# Altium footprint library relay.PCBLIB: 291 footprints (part 3 of 19)
Each footprint in its own frame and in the unit in brackets; x right, y up, seen from the top. Pads: shape width x height; smd on the part's side, far side on the other; paste and mask are expansions set on the pad; w line width, h text height; cw(c..) or ccw(c..) is an arc to the next point about the centre after c.
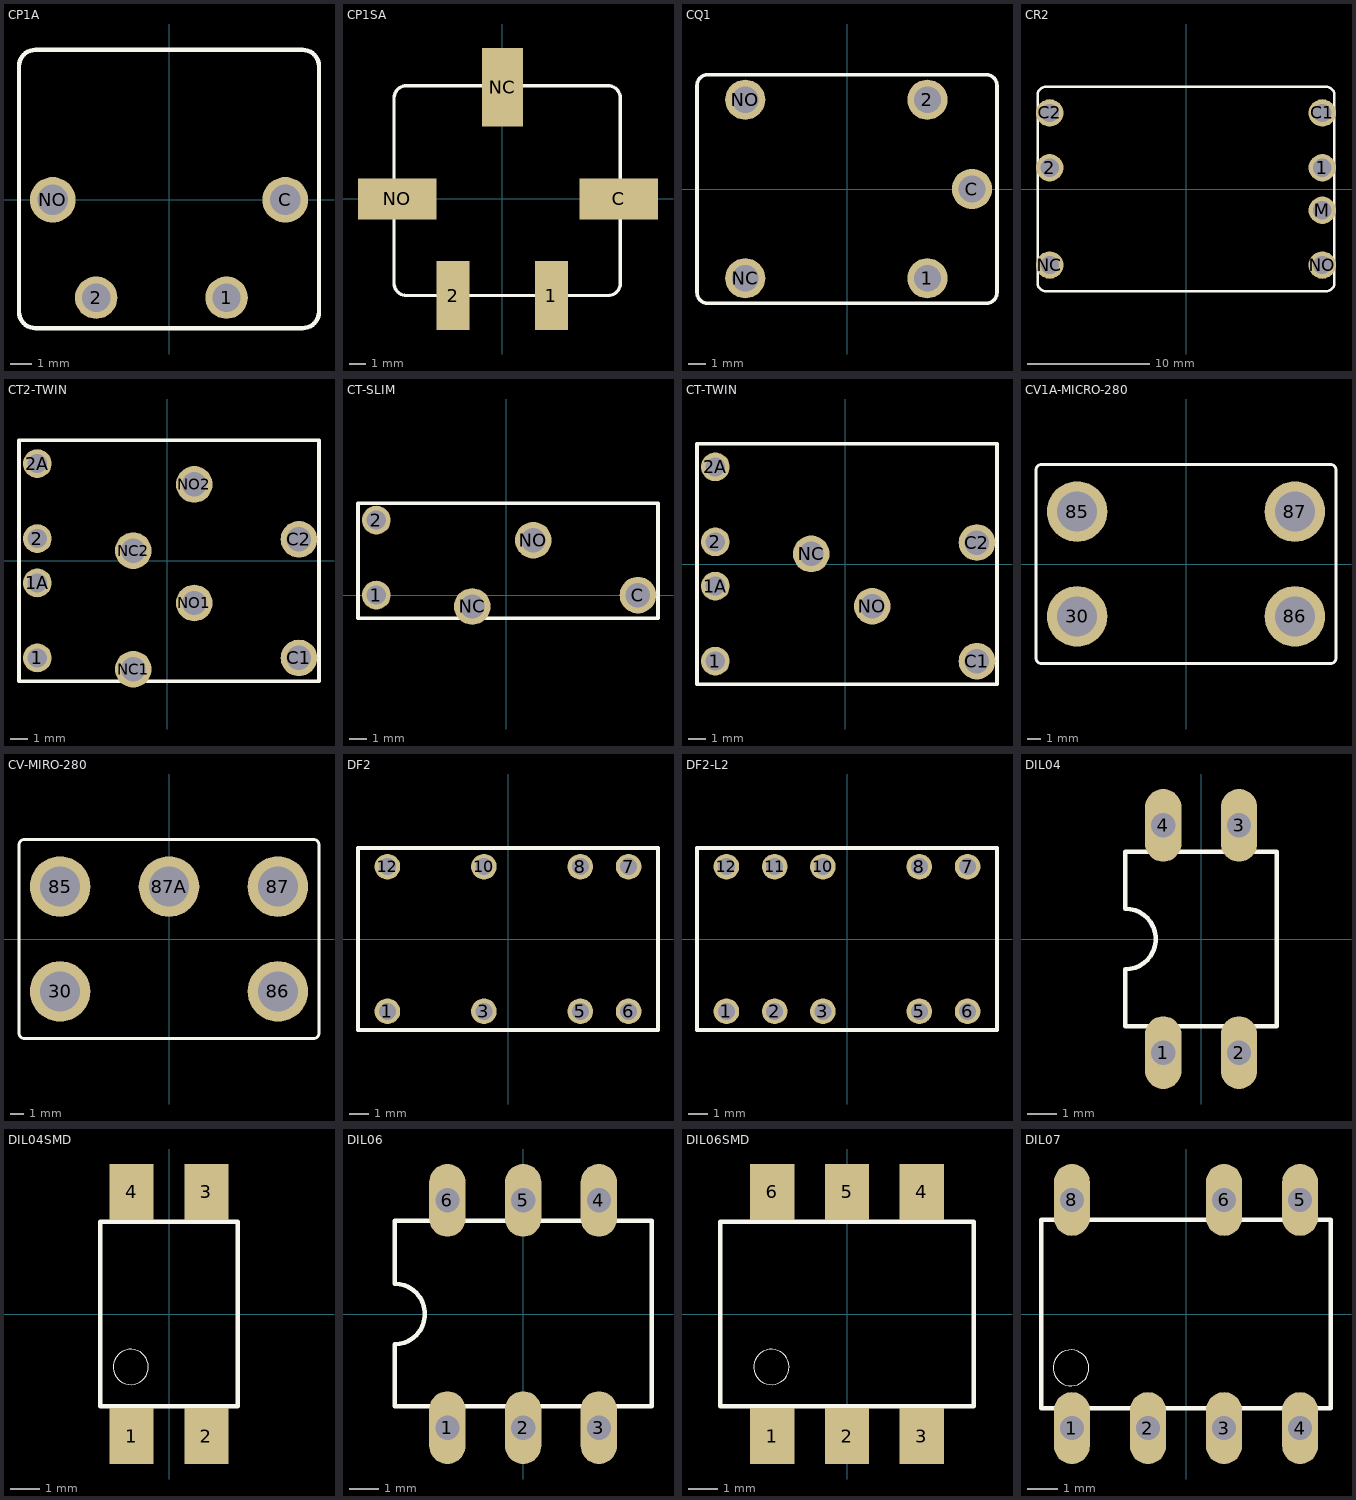
[diagram p2: the footprints below, top view; thin cyan lines are the x and y axes]

## CP1A [mm]
pads (4):
  round 1.95 hole 1.3: 1(2.65,-4.5) 2(-3.35,-4.5)
  round 2.1 hole 1.4: C(5.35,0) NO(-5.35,0)
Top Overlay:
  lines w0.203: -6.9,-5.15 -6.9,6.15 cw(c-6.15,6.15) -6.15,6.9 6.15,6.9 cw(c6.15,6.15) 6.9,6.15 6.9,-5.15 cw(c6.15,-5.15) 6.15,-5.9 -6.15,-5.9 cw(c-6.15,-5.15) -6.9,-5.15

## CP1SA [mm]
pads (5):
  rect 2x4.2 smd: 1(3,-5.9) 2(-3,-5.9)
  rect 4.8x2.5 smd: C(7.1,0) NO(-6.4,0)
  rect 2.5x4.8 smd: NC(0,6.8)
Top Overlay:
  lines w0.203: -6.6,-5.15 -6.6,6.15 cw(c-5.85,6.15) -5.85,6.9 6.45,6.9 cw(c6.45,6.15) 7.2,6.15 7.2,-5.15 cw(c6.45,-5.15) 6.45,-5.9 -5.85,-5.9 cw(c-5.85,-5.15) -6.6,-5.15
Mechanical 16:
  region: 3.5,-6 2.5,-6 2.5,-7.4 3.5,-7.4
  region: -2.5,-6 -3.5,-6 -3.5,-7.4 -2.5,-7.4
  region: -6.7,0.75 -8.2,0.75 -8.2,-0.75 -6.7,-0.75
  region: 8.8,0.75 7.3,0.75 7.3,-0.75 8.8,-0.75
  region: -0.75,8.5 -0.75,7 0.75,7 0.75,8.5

## CQ1 [mm]
pads (5):
  round 2.25 hole 1.5: 1(4.5,-5) 2(4.5,5) C(7,0) NC(-5.7,-5) NO(-5.7,5)
Top Overlay:
  lines w0.203: -8.4,-5.8 -8.4,5.8 cw(c-7.8,5.8) -7.8,6.4 7.8,6.4 cw(c7.8,5.8) 8.4,5.8 8.4,-5.8 cw(c7.8,-5.8) 7.8,-6.4 -7.8,-6.4 cw(c-7.8,-5.8) -8.4,-5.8

## CR2 [mil]
pads (7):
  round 88.59 hole 59.06: 1(440.94,68.9) 2(-440.94,68.9) C1(440.94,246.06) C2(-440.94,246.06) M(440.94,-68.9) NC(-440.94,-246.06) NO(440.94,-246.06)
Top Overlay:
  lines w8: -480.32,-303.15 -480.32,303.15 cw(c-452.76,303.15) -452.76,330.71 452.76,330.71 cw(c452.76,303.15) 480.32,303.15 480.32,-303.15 cw(c452.76,-303.15) 452.76,-330.71 -452.76,-330.71 cw(c-452.76,-303.15) -480.32,-303.15

## CT2-TWIN [mil]
pads (10):
  round 64.97 hole 43.31: 1(-293.31,-219.29) 1A(-293.31,-50) 2(-293.31,50) 2A(-293.31,219.29)
  round 82.68 hole 55.12: C1(297.24,-219.29) C2(297.24,48.43) NC1(-76.77,-244.88) NC2(-76.77,22.83) NO1(61.02,-95.28) NO2(61.02,172.44)
Top Overlay:
  lines w8: -334.65,-271.65 -334.65,271.65 342.52,271.65 342.52,-271.65 -334.65,-271.65

## CT-SLIM [mm]
pads (5):
  round 1.65 hole 1.1: 1(-7.45,0) 2(-7.45,4.3)
  round 2.1 hole 1.4: C(7.55,0) NC(-1.95,-0.65) NO(1.55,3.15)
Top Overlay:
  lines w0.203: -8.5,-1.33 -8.5,5.27 8.7,5.27 8.7,-1.33 -8.5,-1.33

## CT-TWIN [mil]
pads (8):
  round 64.97 hole 43.31: 1(-293.31,-219.29) 1A(-293.31,-50) 2(-293.31,50) 2A(-293.31,219.29)
  round 82.68 hole 55.12: C1(297.24,-219.29) C2(297.24,48.43) NC(-76.77,22.83) NO(61.02,-95.28)
Top Overlay:
  lines w8: -334.65,-271.65 -334.65,271.65 342.52,271.65 342.52,-271.65 -334.65,-271.65

## CV1A-MICRO-280 [mm]
pads (4):
  round 4.5 hole 3: 30(-8.1,-3.9) 85(-8.1,3.9) 86(8.1,-3.9) 87(8.1,3.9)
Top Overlay:
  lines w0.203: -11.15,-6.994 ccw(c-10.744,-6.994) -10.744,-7.4 10.744,-7.4 ccw(c10.744,-6.994) 11.15,-6.994 11.15,6.994 ccw(c10.744,6.994) 10.744,7.4 -10.744,7.4 ccw(c-10.744,6.994) -11.15,6.994 -11.15,-6.994

## CV-MIRO-280 [mm]
pads (5):
  round 4.5 hole 3: 30(-8.1,-3.9) 85(-8.1,3.9) 86(8.1,-3.9) 87(8.1,3.9) 87A(0,3.9)
Top Overlay:
  lines w0.203: -11.15,-6.994 ccw(c-10.744,-6.994) -10.744,-7.4 10.744,-7.4 ccw(c10.744,-6.994) 11.15,-6.994 11.15,6.994 ccw(c10.744,6.994) 10.744,7.4 -10.744,7.4 ccw(c-10.744,6.994) -11.15,6.994 -11.15,-6.994

## DF2 [mil]
pads (8):
  round 53.15 hole 35.43: 1(-250,-150) 3(-50,-150) 5(150,-150) 6(250,-150) 7(250,150) 8(150,150) 10(-50,150) 12(-250,150)
Top Overlay:
  lines w8: -311.02,-188.98 311.02,-188.98 311.02,188.98 -311.02,188.98 -311.02,-188.98

## DF2-L2 [mil]
pads (10):
  round 53.15 hole 35.43: 1(-250,-150) 2(-150,-150) 3(-50,-150) 5(150,-150) 6(250,-150) 7(250,150) 8(150,150) 10(-50,150) 11(-150,150) 12(-250,150)
Top Overlay:
  lines w8: -311.02,-188.98 311.02,-188.98 311.02,188.98 -311.02,188.98 -311.02,-188.98

## DIL04 [mil]
pads (4):
  oval 48x96 hole 32: 1(-50,-150) 2(50,-150) 3(50,150) 4(-50,150)
Top Overlay:
  lines w6: -100,-115 100,-115 100,115 -100,115 -100,40 cw(c-100,0) -100,-40 -100,-115

## DIL04SMD [mil]
pads (4):
  rect 59.06x74.8 smd: 1(-50,-163.39) 2(50,-163.39) 3(50,163.39) 4(-50,163.39)
Top Overlay:
  circle w0: c-51.18,-70.87 r23.62
  lines w6: -92.13,-123.78 92.13,-123.78 92.13,123.78 -92.13,123.78 -92.13,-123.78
Mechanical 16:
  rectangle: 30,-180 70,-125
  rectangle: -70,-180 -30,-125
  rectangle: -70,125 -30,180
  rectangle: 30,125 70,180

## DIL06 [mil]
pads (6):
  oval 48x96 hole 32: 1(-100,-150) 2(0,-150) 3(100,-150) 4(100,150) 5(0,150) 6(-100,150)
Top Overlay:
  lines w6: -169.69,-121.89 169.69,-121.89 169.69,122.87 -169.69,122.87 -169.69,40 cw(c-169.69,0) -169.69,-40 -169.69,-121.89

## DIL06SMD [mil]
pads (6):
  rect 59.06x74.8 smd: 1(-100,-163.39) 2(0,-163.39) 3(100,-163.39) 4(100,163.39) 5(0,163.39) 6(-100,163.39)
Top Overlay:
  circle w0: c-101.18,-70.87 r23.62
  lines w6: -169.69,-123.78 169.69,-123.78 169.69,123.78 -169.69,123.78 -169.69,-123.78
Mechanical 16:
  rectangle: -20,-180 20,-125
  rectangle: -120,-180 -80,-125
  rectangle: 80,-180 120,-125
  rectangle: 80,125 120,180
  rectangle: -20,125 20,180
  rectangle: -120,125 -80,180

## DIL07 [mil]
pads (7):
  oval 47.25x94.5 hole 31.5: 1(-150,-150) 2(-50,-150) 3(50,-150) 4(150,-150) 5(150,150) 6(50,150) 8(-150,150)
Top Overlay:
  circle w0: c-151.18,-70.87 r23.62
  lines w6: -190.16,-123.78 190.16,-123.78 190.16,123.78 -190.16,123.78 -190.16,-123.78
Mechanical 16:
  rectangle: 35,125 65,150
  rectangle: -165,125 -135,150
  rectangle: -165,-150 -135,-125
  rectangle: -65,-150 -35,-125
  rectangle: 35,-150 65,-125
  rectangle: 135,-150 165,-125
  rectangle: 135,125 165,150